# EAGLE library part TPS2596XX (library U-TI-TPS2596XX-eFuse)
TPS2596XX <http://www.ti.com/product/TPS2596> - eFuse With Accurate Current Monitor and Fast Overvoltage Protection Specifications Input voltage: 2.7-V to 19-V, (21-V Absolute maximum) Overvoltage Protection: Fast overvoltage clamp (3.8-V, 5.7-V and 13.8- V pin-selectable thresholds) with a response time of 5-μs (typical) Current Limiting: Adjustable, 0.125-A to 2-A Current Monitoring: Analog through pin ILIM Operating Temperature Range: –40 °C to +125 °C Body Size: SOIC (8) 4.91 mm x 3.9 mm
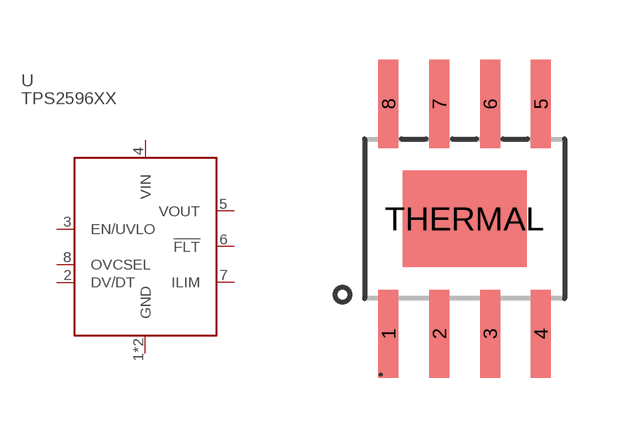
[diagram p0: symbol with the pads of SO-POWERPAD-8; footprint SO-POWERPAD-8]

Designator prefix U

## TPS2596XX  [SO-POWERPAD-8]
1  GND
2  DV/DT
3  EN/UVLO
4  VIN  pwr
5  VOUT  pwr
6  !FLT
7  ILIM
8  OVCSEL
THERMAL  GND

## Footprint SO-POWERPAD-8 (pad centres in mm)
smd 0.5 x 2.2: 1 -1.905,-2.875; 2 -0.635,-2.875; 3 0.635,-2.875; 4 1.905,-2.875; 5 1.905,2.875; 6 0.635,2.875; 7 -0.635,2.875; 8 -1.905,2.875
smd 3.1 x 2.4: THERMAL 0,0